# EAGLE library part WE-RJ45_7499510440 (library WE-RJ45_LAN)
WE-RJ45 LAN Transformer Characteristics RJ45 Connector with integrated transformer / common mode choke Power over Ethernet up to 50 Watt and speeds up to 10 Gbit/s Available in SMD, THT and THT with USB Compliant with standards: IEEE 802.3u, IEEE 802.3ab, IEEE 802.3af, IEEE 802.3at, IEEE 802.3an and upcoming IEE 802.3bt Applications Suitable for industrial temperatures from –40 °C up to +85 °C Compatible to Industrial Ethernet systems like EtherCAT or Profinet Compliant with most IC’s for Ethernet applications such as Microchip, Texas Instruments, Broadcom, Linear Technology Hubs, Routers, Switches, IP cameras, IoT applications <https://www.we-online.com/components/media/o35731v209%20Family-WE-RJ45LAN-7499xxxxxx.jpg> Details see: www.we-online.com/components/products/WE-LAN-RJ45 <www.we-online.com/catalog/WE-LAN-RJ45/?utm_source=eagle_model&utm_medium=description_link&utm_campaign=eisos_eagle> Updated by Ella Wu 2021-07-09 2021 (C) Wurth Elektronik
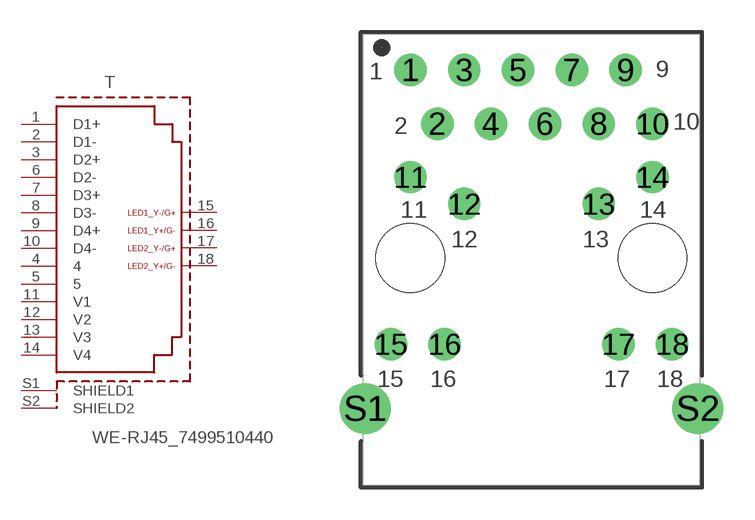
[diagram p9: symbol with the pads of 7499510440; footprint 7499510440]

Designator prefix T

## WE-RJ45_7499510440 (DATA-RATE: 1000 Base-T; DATASHEET-URL: https://www.we-online.com/redexpert/spec/7499510440?ae; IMPROVED-CMRR: -; LED: yellow/green-yellow/green; MOUNT: THT; OPERATING-TEMPERATURE: -; PART-NUMBER: 7499510440; PHY-CHIP-MODE: -; POE: PoE (up to 600 mA); PORTS: 1; SHIELD-TABS: -; TAB: -; USB: No; VALUE: 7499510440)  [7499510440]
1  D1+  pas
2  D1-  pas
3  D2+  pas
4  4  pas
5  5  pas
6  D2-  pas
7  D3+  pas
8  D3-  pas
9  D4+  pas
10  D4-  pas
11  V1  pas
12  V2  pas
13  V3  pas
14  V4  pas
15  LED1_Y-/G+  pas
16  LED1_Y+/G-  pas
17  LED2_Y-/G+  pas
18  LED2_Y+/G-  pas
S1  SHIELD1  pas
S2  SHIELD2  pas

## Footprint 7499510440 (pad centres in mm)
WE-RJ45 LAN Transformer 1000 Base-T
drill 1.02: 1 -5.715,8.89; 2 -4.445,6.35; 3 -3.175,8.89; 4 -1.905,6.35; 5 -0.635,8.89; 6 0.635,6.35; 7 1.905,8.89; 8 3.175,6.35; 9 4.445,8.89; 10 5.715,6.35; 11 -5.715,3.83; 12 -3.175,2.56; 13 3.175,2.56; 14 5.715,3.83; 15 -6.64,-4.06; 16 -4.1,-4.06; 17 4.1,-4.06; 18 6.64,-4.06
drill 1.6: S1 -7.85,-7.11; S2 7.85,-7.11
hole 3.25 at -5.715,0
hole 3.25 at 5.715,0